# EAGLE library part QUECTEL_10 (library gps-gsm)
Quectel L10 GPS Module by Quectel
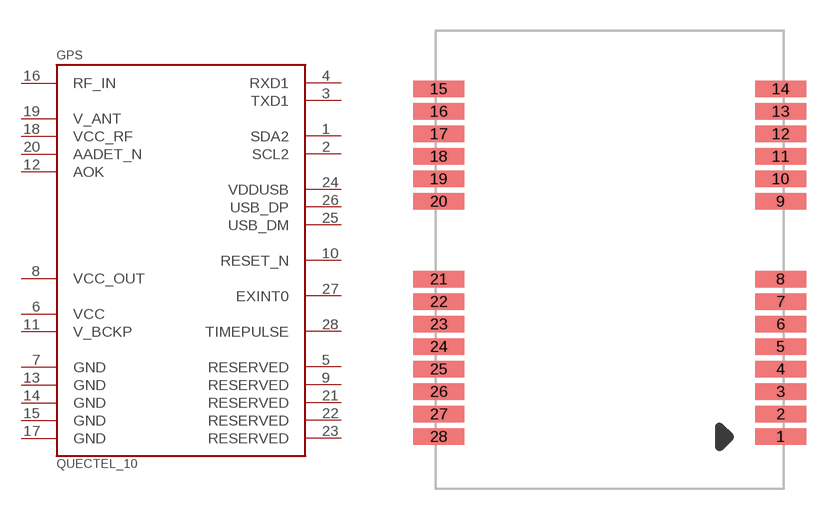
[diagram p17: symbol with the pads of L10; footprint L10]

Designator prefix GPS

## QUECTEL_10  [L10]
1  SDA2
2  SCL2
3  TXD1  out
4  RXD1  in
5  RESERVED  nc
6  VCC  pwr
7  GND  pwr
8  VCC_OUT  out
9  RESERVED  nc
10  RESET_N  in
11  V_BCKP  pwr
12  AOK  out
13  GND  pwr
14  GND  pwr
15  GND  pwr
16  RF_IN
17  GND  pwr
18  VCC_RF  out
19  V_ANT  in
20  AADET_N  in
21  RESERVED  nc
22  RESERVED  nc
23  RESERVED  nc
24  VDDUSB  pwr
25  USB_DM
26  USB_DP
27  EXINT0  in
28  TIMEPULSE  out

## Footprint L10 (pad centres in mm)
Quectel L10 A GPS Module by Quectel.
smd 2.5 x 0.8: 1 8.35,-8.65; 2 8.35,-7.55; 3 8.35,-6.45; 4 8.35,-5.35; 5 8.35,-4.25; 6 8.35,-3.15; 7 8.35,-2.05; 8 8.35,-0.95; 9 8.35,2.85; 10 8.35,3.95; 11 8.35,5.05; 12 8.35,6.15; 13 8.35,7.25; 14 8.35,8.35; 15 -8.35,8.35; 16 -8.35,7.25; 17 -8.35,6.15; 18 -8.35,5.05; 19 -8.35,3.95; 20 -8.35,2.85; 21 -8.35,-0.95; 22 -8.35,-2.05; 23 -8.35,-3.15; 24 -8.35,-4.25; 25 -8.35,-5.35; 26 -8.35,-6.45; 27 -8.35,-7.55; 28 -8.35,-8.65